# EAGLE library part DS620 (library eagle-library-edeca.net-v4)
Maxim DS620 Low-Voltage, ±0.5°C Accuracy Digital Thermometer and Thermostat
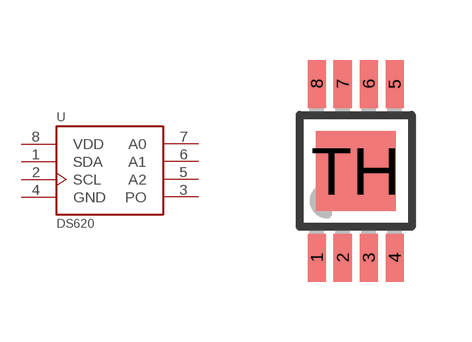
[diagram p6: symbol with the pads of UMAX8-THERMAL; footprint UMAX8-THERMAL]

Designator prefix -

## DS620  [UMAX8-THERMAL]
1  SDA
2  SCL
3  PO  out
4  GND  pwr
5  A2  in
6  A1  in
7  A0  in
8  VDD  pwr

## Footprint UMAX8-THERMAL (pad centres in mm)
micro MAX Package Source: MAX1792.pdf
smd 0.45 x 1.2: 1 -0.975,-2.175; 2 -0.325,-2.175; 3 0.325,-2.175; 4 0.975,-2.175; 5 0.975,2.175; 6 0.325,2.175; 7 -0.325,2.175; 8 -0.975,2.175
smd 2 x 2: TH 0,0